# Altium footprint library VQFN40P600X600X90-49N.PcbLib: 1 footprints
Each footprint in its own frame and in the unit in brackets; x right, y up, seen from the top. Pads: shape width x height; smd on the part's side, far side on the other; paste and mask are expansions set on the pad; w line width, h text height; cw(c..) or ccw(c..) is an arc to the next point about the centre after c.
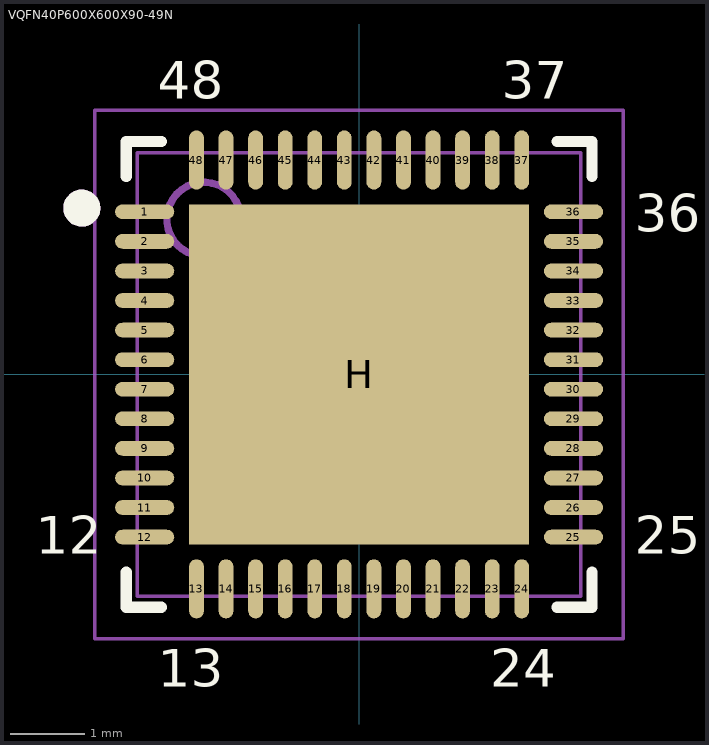
[diagram p0: the footprint, top view; thin cyan lines are the x and y axes]

## VQFN40P600X600X90-49N [mm] "QFN, 48-Leads, Body 6.00x6.00mm, Pitch 0.40mm, Thermal Pad 4.60x4.60mm, IPC Medium Density"
height 0.9
pads (49):
  oval 0.8x0.2 smd mask+0.051: 1(-2.9,2.2) 2(-2.9,1.8) 3(-2.9,1.4) 4(-2.9,1) 5(-2.9,0.6) 6(-2.9,0.2) 7(-2.9,-0.2) 8(-2.9,-0.6) 9(-2.9,-1) 10(-2.9,-1.4) 11(-2.9,-1.8) 12(-2.9,-2.2) 25(2.9,-2.2) 26(2.9,-1.8) 27(2.9,-1.4) 28(2.9,-1) 29(2.9,-0.6) 30(2.9,-0.2) 31(2.9,0.2) 32(2.9,0.6) 33(2.9,1) 34(2.9,1.4) 35(2.9,1.8) 36(2.9,2.2)
  oval 0.2x0.8 smd mask+0.051: 13(-2.2,-2.9) 14(-1.8,-2.9) 15(-1.4,-2.9) 16(-1,-2.9) 17(-0.6,-2.9) 18(-0.2,-2.9) 19(0.2,-2.9) 20(0.6,-2.9) 21(1,-2.9) 22(1.4,-2.9) 23(1.8,-2.9) 24(2.2,-2.9) 37(2.2,2.9) 38(1.8,2.9) 39(1.4,2.9) 40(1,2.9) 41(0.6,2.9) 42(0.2,2.9) 43(-0.2,2.9) 44(-0.6,2.9) 45(-1,2.9) 46(-1.4,2.9) 47(-1.8,2.9) 48(-2.2,2.9)
  rect 4.6x4.6 smd paste-5 mask+0.051: H(0,0)
Top Overlay:
  circle w0.25: c-3.75,2.25 r0.125
  lines w0.152: -3.15,-2.676 -3.15,-3.15 -2.676,-3.15 ; -3.15,2.676 -3.15,3.15 -2.676,3.15 ; 2.676,-3.15 3.15,-3.15 3.15,-2.676 ; 2.676,3.15 3.15,3.15 3.15,2.676
  text "48" at -2.723,3.727 h0.51
  text "37" at 1.927,3.727 h0.51
  text "36" at 3.727,1.927 h0.51
  text "25" at 3.727,-2.423 h0.51
  text "24" at 1.777,-4.223 h0.51
  text "13" at -2.723,-4.223 h0.51
  text "12" at -4.373,-2.423 h0.51
Top Paste:
  rectangle: -1.95,0.15 -0.15,1.95
  rectangle: -1.95,-1.95 -0.15,-0.15
  rectangle: 0.15,-1.95 1.95,-0.15
  rectangle: 0.15,0.15 1.95,1.95
Mechanical 13:
  circle w0.25: c-3.75,2.25 r0.125
  circle w0.1: c-2.1,2.1 r0.5
  lines w0.05: -3,-3 -3,3 3,3 3,-3 -3,-3
  text "48" at -2.723,3.727 h0.51
  text "37" at 1.927,3.727 h0.51
  text "36" at 3.727,1.927 h0.51
  text "25" at 3.727,-2.423 h0.51
  text "24" at 1.777,-4.223 h0.51
  text "13" at -2.723,-4.223 h0.51
  text "12" at -4.373,-2.423 h0.51
Mechanical 15:
  lines w0.05: -3.575,-3.575 3.575,-3.575 3.575,3.575 -3.575,3.575 -3.575,-3.575
  lines w0.1: -0.5,0 0.5,0 ; 0,-0.5 0,0.5
3D body "VQFN40P600X600X90-49N.step": height 0.9, standoff 0, extent -3,-3 3,3